# EAGLE library part HEADER-1X17 (library anykey)
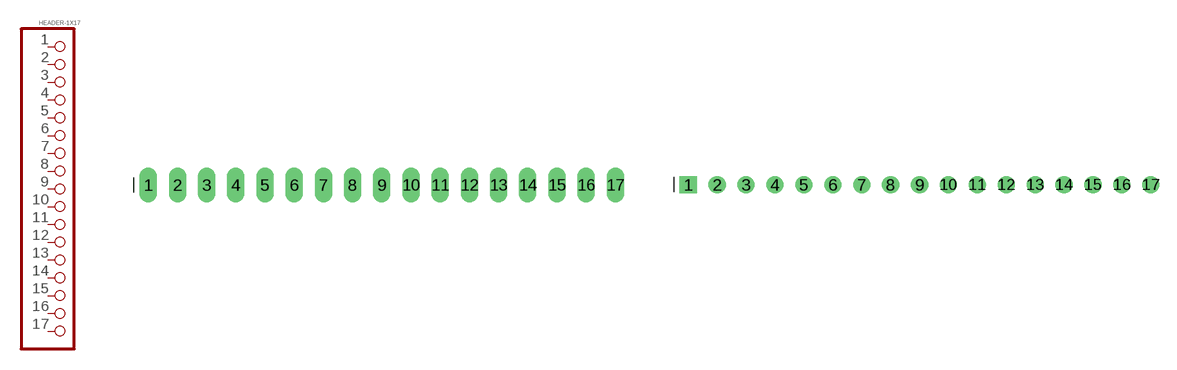
[diagram p37: symbol with the pads of 1X17_OVAL; footprints 1X17_OVAL, 1X17_ROUND]

Designator prefix P

## HEADER-1X17OVAL  [1X17_OVAL]
1  1  pas
2  2  pas
3  3  pas
4  4  pas
5  5  pas
6  6  pas
7  7  pas
8  8  pas
9  9  pas
10  10  pas
11  11  pas
12  12  pas
13  13  pas
14  14  pas
15  15  pas
16  16  pas
17  17  pas

## HEADER-1X17ROUND  [1X17_ROUND]
Pads as for 1X17_OVAL

## Footprint 1X17_OVAL (pad centres in mm)
drill 1 long: 1 -20.32,0; 2 -17.78,0; 3 -15.24,0; 4 -12.7,0; 5 -10.16,0; 6 -7.62,0; 7 -5.08,0; 8 -2.54,0; 9 0,0; 10 2.54,0; 11 5.08,0; 12 7.62,0; 13 10.16,0; 14 12.7,0; 15 15.24,0; 16 17.78,0; 17 20.32,0

## Footprint 1X17_ROUND (pad centres in mm)
drill 1 square: 1 -20.32,0
drill 1: 2 -17.78,0; 3 -15.24,0; 4 -12.7,0; 5 -10.16,0; 6 -7.62,0; 7 -5.08,0; 8 -2.54,0; 9 0,0; 10 2.54,0; 11 5.08,0; 12 7.62,0; 13 10.16,0; 14 12.7,0; 15 15.24,0; 16 17.78,0; 17 20.32,0